# Altium schematic symbol library POWER_RELAYS_OVER_2_AMPS.SchLib: 1 symbol
Pins are listed as number, name and electrical type; pins without a type are passive.

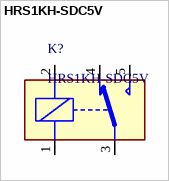
[diagram p0: symbol HRS1KH-SDC5V]

## HRS1KH-SDC5V
designator K?
MULTICOMP         HRS1KH-S DC5V             Signal Relay, HRS1K Series, SPDT, 5 VDC, 3 A, Through Hole; Power Rating: 200mW; Number of Poles: 1; Contact Current Rating: 3A; Coil Resistance: 125R; Insulation Resistance: 100MR; Release Time: 5ms; Coil Voltage (DC): 5V; Supplier: Farnell; Supplier Part Number: 9480293; Manufacturer: Multicomp; Manufacturer Part Number: HRS1KH-SDC5V; RoHS: Yes; Category: Relays; Mounting Technology: PCB; Contact Material: Silver; Min Operating Temperature: -25°C; Max Operating Temperature: 55°C; Throw Configuration: SPDT; Coil Power: 200mW; Series: HRS1; Width: 15.5mm; Height: 11.8mm; Reach SVHC Compliant: No; ComponentLink1URL: https://datasheet.ciiva.com/7656/1318168-7656158.pdf?src-supplier=Element14; ComponentLink1Description: https://datasheet.ciiva.com/7656/1318168-7656158.pdf?src-supplier=Element14
footprint MCHRS1KH-S DC5V (Signal Relay, HRS1K Series, SPDT, 5 VDC, 3 A, Through Hole)
pins: 1, 2, 3, 4, 5